# Altium schematic symbol library mcu_holtek.SchLib: 5 symbols
Pins are listed as number, name and electrical type; pins without a type are passive.

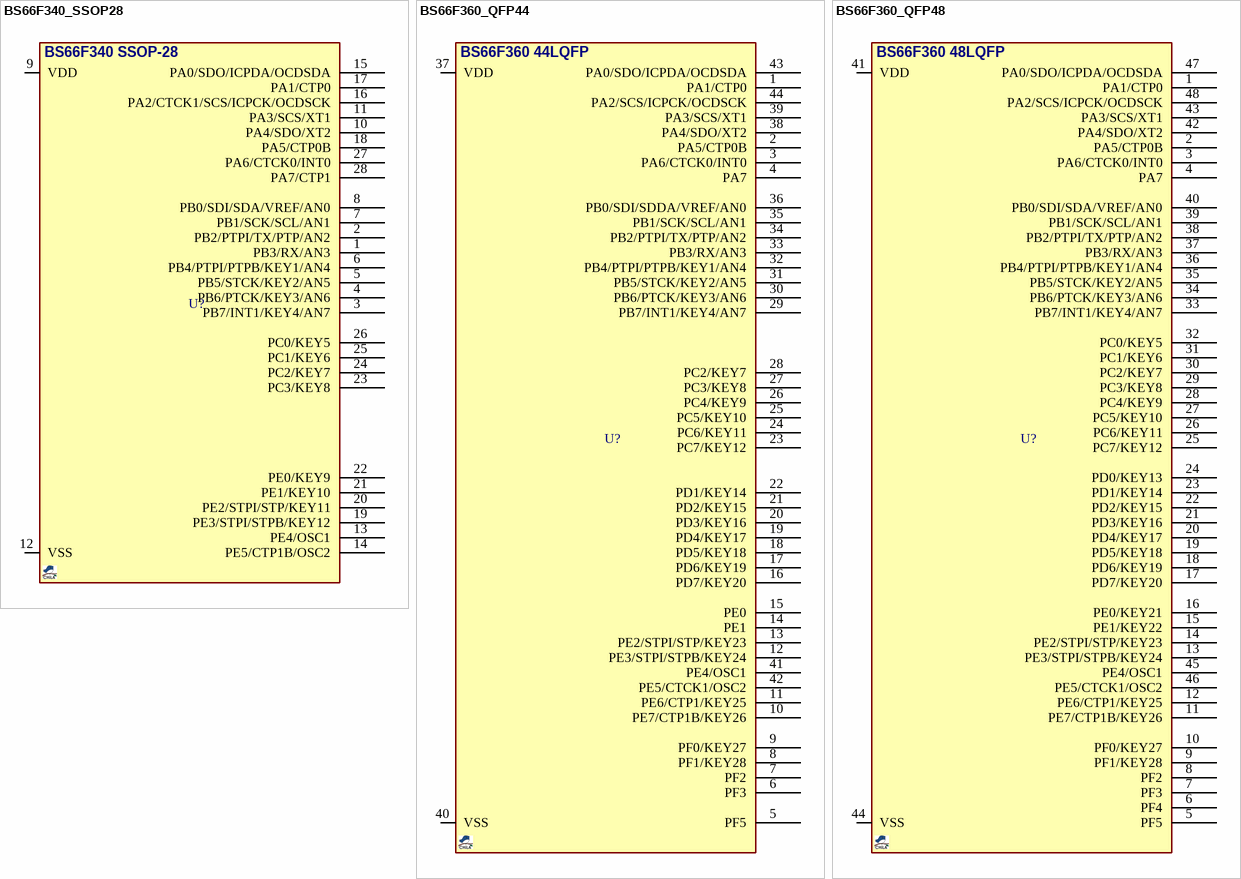
[diagram p0: symbols BS66F340_SSOP28 to BS66F360_QFP48]

## BS66F340_SSOP28
designator U?, comment BS66F340  (value not drawn)
MCU, Flash, Touch A/D with LED driver; MANF: HOLTEK; MANF_P#: BS66F340 28SSOP; PARAM2: 2.2~5.5Vcc; PARAM: 4k prog, 512 data, 128b eeprom, 26IO, 8 x ADC 12-bit; PRICE: 20t@micromodern; VALUE: BS66F340
footprint SOG65_28 (PW TSSOP (TI), MO-153-AE (JEDEC), 28Lead, pitch: 0.65mm, 10x4.4x1.2mm)
pins: 1 PB3/RX/AN3, 2 PB2/PTPI/TX/PTP/AN2, 3 PB7/INT1/KEY4/AN7, 4 PB6/PTCK/KEY3/AN6, 5 PB5/STCK/KEY2/AN5, 6 PB4/PTPI/PTPB/KEY1/AN4, 7 PB1/SCK/SCL/AN1, 8 PB0/SDI/SDA/VREF/AN0, 9 VDD, 10 PA4/SDO/XT2, 11 PA3/SCS/XT1, 12 VSS, 13 PE4/OSC1, 14 PE5/CTP1B/OSC2, 15 PA0/SDO/ICPDA/OCDSDA, 16 PA2/CTCK1/SCS/ICPCK/OCDSCK, 17 PA1/CTP0, 18 PA5/CTP0B, 19 PE3/STPI/STPB/KEY12, 20 PE2/STPI/STP/KEY11, 21 PE1/KEY10, 22 PE0/KEY9, 23 PC3/KEY8, 24 PC2/KEY7, 25 PC1/KEY6, 26 PC0/KEY5, 27 PA6/CTCK0/INT0, 28 PA7/CTP1
text: BS66F340 SSOP-28

## BS66F360_QFP44
designator U?, comment BS66F360  (value not drawn)
MCU, Flash, Touch A/D with LED driver; MANF: HOLTEK; MANF_P#: BS66F360 LQFP-44; PARAM2: 2.2~5.5Vcc; PARAM: 16k prog, 1k data, 128b eeprom, 42IO, 8 x ADC 12-bit; PRICE: 20t@micromodern; VALUE: BS66F360
footprint QFG80_44 (TQFP44, PQFP44, A44 (Cypress), QFP44/MQFP44N (Dallas), VQ44,VQG44 (Xilinx), MS-026ACB, MS-022AB(JEDEC), 44A, 10X10, 0.8mm)
pins: 1 PA1/CTP0, 2 PA5/CTP0B, 3 PA6/CTCK0/INT0, 4 PA7, 5 PF5, 6 PF3, 7 PF2, 8 PF1/KEY28, 9 PF0/KEY27, 10 PE7/CTP1B/KEY26, 11 PE6/CTP1/KEY25, 12 PE3/STPI/STPB/KEY24, 13 PE2/STPI/STP/KEY23, 14 PE1, 15 PE0, 16 PD7/KEY20, 17 PD6/KEY19, 18 PD5/KEY18, 19 PD4/KEY17, 20 PD3/KEY16, 21 PD2/KEY15, 22 PD1/KEY14, 23 PC7/KEY12, 24 PC6/KEY11, 25 PC5/KEY10, 26 PC4/KEY9, 27 PC3/KEY8, 28 PC2/KEY7, 29 PB7/INT1/KEY4/AN7, 30 PB6/PTCK/KEY3/AN6, 31 PB5/STCK/KEY2/AN5, 32 PB4/PTPI/PTPB/KEY1/AN4, 33 PB3/RX/AN3, 34 PB2/PTPI/TX/PTP/AN2, 35 PB1/SCK/SCL/AN1, 36 PB0/SDI/SDDA/VREF/AN0, 37 VDD, 38 PA4/SDO/XT2, 39 PA3/SCS/XT1, 40 VSS, 41 PE4/OSC1, 42 PE5/CTCK1/OSC2, 43 PA0/SDO/ICPDA/OCDSDA, 44 PA2/SCS/ICPCK/OCDSCK
text: BS66F360 44LQFP

## BS66F360_QFP48
designator U?, comment BS66F360  (value not drawn)
MCU, Flash, Touch A/D with LED driver; MANF: HOLTEK; MANF_P#: BS66F360 LQFP-48; PARAM2: 2.2~5.5Vcc; PARAM: 16k prog, 1k data, 128b eeprom, 46IO, 8 x ADC 12-bit; PRICE: 20t@micromodern; VALUE: BS66F360
footprint QFG50_48 (LQFP48, PQFF, PQFG, TSQFP, 48-Leads, Body 7.00x7.00mm, Pitch 0.50mm)
pins: 1 PA1/CTP0, 2 PA5/CTP0B, 3 PA6/CTCK0/INT0, 4 PA7, 5 PF5, 6 PF4, 7 PF3, 8 PF2, 9 PF1/KEY28, 10 PF0/KEY27, 11 PE7/CTP1B/KEY26, 12 PE6/CTP1/KEY25, 13 PE3/STPI/STPB/KEY24, 14 PE2/STPI/STP/KEY23, 15 PE1/KEY22, 16 PE0/KEY21, 17 PD7/KEY20, 18 PD6/KEY19, 19 PD5/KEY18, 20 PD4/KEY17, 21 PD3/KEY16, 22 PD2/KEY15, 23 PD1/KEY14, 24 PD0/KEY13, 25 PC7/KEY12, 26 PC6/KEY11, 27 PC5/KEY10, 28 PC4/KEY9, 29 PC3/KEY8, 30 PC2/KEY7, 31 PC1/KEY6, 32 PC0/KEY5, 33 PB7/INT1/KEY4/AN7, 34 PB6/PTCK/KEY3/AN6, 35 PB5/STCK/KEY2/AN5, 36 PB4/PTPI/PTPB/KEY1/AN4, 37 PB3/RX/AN3, 38 PB2/PTPI/TX/PTP/AN2, 39 PB1/SCK/SCL/AN1, 40 PB0/SDI/SDA/VREF/AN0, 41 VDD, 42 PA4/SDO/XT2, 43 PA3/SCS/XT1, 44 VSS, 45 PE4/OSC1, 46 PE5/CTCK1/OSC2, 47 PA0/SDO/ICPDA/OCDSDA, 48 PA2/SCS/ICPCK/OCDSCK
text: BS66F360 48LQFP

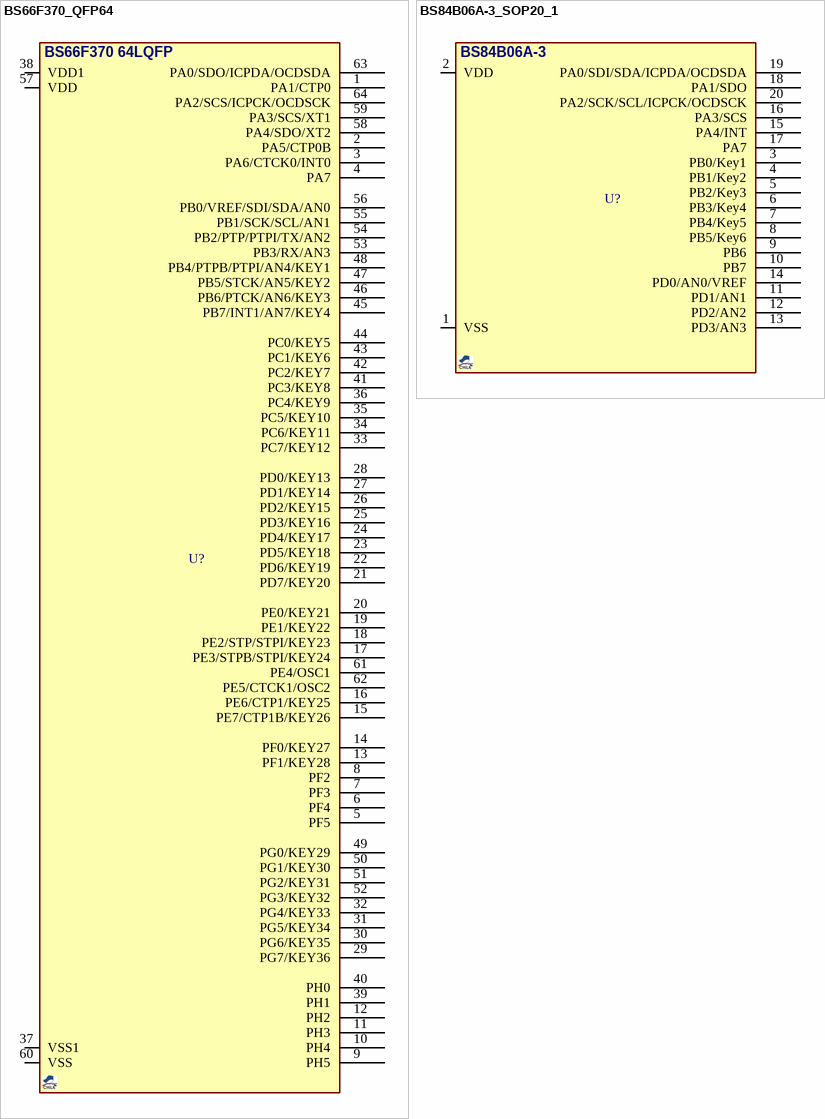
[diagram p1: symbols BS66F370_QFP64 to BS84B06A-3_SOP20_1]

## BS66F370_QFP64
designator U?, comment BS66F360  (value not drawn)
MCU, Flash, Touch A/D with LED driver; MANF: HOLTEK; MANF_P#: BS66F370 LQFP-64; PARAM2: 2.2~5.5Vcc; PARAM: 32k prog, 1.5k data, 128b eeprom, 60IO, 8 x ADC 12-bit; PRICE: 50t@micromodern; VALUE: BS66F360
footprint QFG50_64 (A64 (CYPRESS), TQFP64, LQFP64, VQ44, VQG44, 10X10mm, Pitch: 0.5mm)
pins: 1 PA1/CTP0, 2 PA5/CTP0B, 3 PA6/CTCK0/INT0, 4 PA7, 5 PF5, 6 PF4, 7 PF3, 8 PF2, 9 PH5, 10 PH4, 11 PH3, 12 PH2, 13 PF1/KEY28, 14 PF0/KEY27, 15 PE7/CTP1B/KEY26, 16 PE6/CTP1/KEY25, 17 PE3/STPB/STPI/KEY24, 18 PE2/STP/STPI/KEY23, 19 PE1/KEY22, 20 PE0/KEY21, 21 PD7/KEY20, 22 PD6/KEY19, 23 PD5/KEY18, 24 PD4/KEY17, 25 PD3/KEY16, 26 PD2/KEY15, 27 PD1/KEY14, 28 PD0/KEY13, 29 PG7/KEY36, 30 PG6/KEY35, 31 PG5/KEY34, 32 PG4/KEY33, 33 PC7/KEY12, 34 PC6/KEY11, 35 PC5/KEY10, 36 PC4/KEY9, 37 VSS1, 38 VDD1, 39 PH1, 40 PH0, 41 PC3/KEY8, 42 PC2/KEY7, 43 PC1/KEY6, 44 PC0/KEY5, 45 PB7/INT1/AN7/KEY4, 46 PB6/PTCK/AN6/KEY3, 47 PB5/STCK/AN5/KEY2, 48 PB4/PTPB/PTPI/AN4/KEY1, 49 PG0/KEY29, 50 PG1/KEY30, 51 PG2/KEY31, 52 PG3/KEY32, 53 PB3/RX/AN3, 54 PB2/PTP/PTPI/TX/AN2, 55 PB1/SCK/SCL/AN1, 56 PB0/VREF/SDI/SDA/AN0, 57 VDD, 58 PA4/SDO/XT2, 59 PA3/SCS/XT1, 60 VSS, 61 PE4/OSC1, 62 PE5/CTCK1/OSC2, 63 PA0/SDO/ICPDA/OCDSDA, 64 PA2/SCS/ICPCK/OCDSCK
text: BS66F370 64LQFP

## BS84B06A-3_SOP20_1
designator U?, comment BS84B06A-3  (value not drawn)
MCU, Flash, Touch A/D; MANF: HOLTEK; MANF_P#: BS84B06A-3/20 SOP-A; PARAM2: 2.7~5.5Vcc; PARAM: -; PRICE: -; VALUE: BS84B06A-3
footprint SO_20_W (SOP, SOIC, 7.5mm width, 1.27mm pitch,)
pins: 1 VSS, 2 VDD, 3 PB0/Key1, 4 PB1/Key2, 5 PB2/Key3, 6 PB3/Key4, 7 PB4/Key5, 8 PB5/Key6, 9 PB6, 10 PB7, 11 PD1/AN1, 12 PD2/AN2, 13 PD3/AN3, 14 PD0/AN0/VREF, 15 PA4/INT, 16 PA3/SCS, 17 PA7, 18 PA1/SDO, 19 PA0/SDI/SDA/ICPDA/OCDSDA, 20 PA2/SCK/SCL/ICPCK/OCDSCK